# Altium schematic symbol library TERMINAL_CONNECOR_2.SchLib: 1 symbol
Pins are listed as number, name and electrical type; pins without a type are passive.

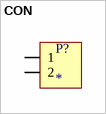
[diagram p0: symbol CON]

## CON
designator P?
KONEKTOR 2 PINA
footprint TERMINAL KONEKTOR 2 (Konektor 2 pina)
pins: 1, 2